# EAGLE library part MPU-6050 (library MPU-6050)
Gyro & Accelerometer 6 Axis I2C,MEMs InvenSense MPU-6050 6-Axis Motion Sensor Module Source: Datasheet <http://store.invensense.com/datasheets/invensense/MPU-6050_DataSheet_V3 4.pdf>
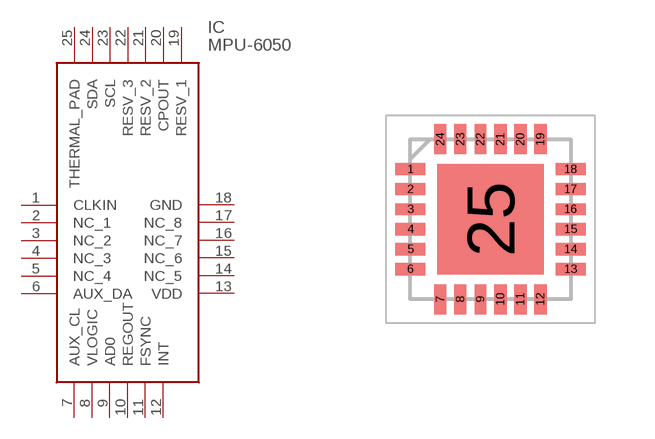
[diagram p0: symbol with the pads of QFN50P400X400X95-25N; footprint QFN50P400X400X95-25N]

Designator prefix IC

## MPU-6050 (Arrow_Part_Number: MPU-6050; Arrow_Price-Stock: http://uk.rs-online.com/web/p/products/8837948P; Description: Gyro & Accelerometer 6 Axis I2C,MEMs InvenSense MPU-6050 6-Axis Motion Sensor Module; Height: 0.95mm; Manufacturer_Name: INVENSENSE; Manufacturer_Part_Number: MPU-6050; RS_Part_Number: 8837948P; RS_Price-Stock: http://uk.rs-online.com/web/p/products/8837948P)  [QFN50P400X400X95-25N]
1  CLKIN
2  NC_1
3  NC_2
4  NC_3
5  NC_4
6  AUX_DA
7  AUX_CL
8  VLOGIC
9  AD0
10  REGOUT
11  FSYNC
12  INT
13  VDD
14  NC_5
15  NC_6
16  NC_7
17  NC_8
18  GND
19  RESV_1
20  CPOUT
21  RESV_2
22  RESV_3
23  SCL
24  SDA
25  THERMAL_PAD

## Footprint QFN50P400X400X95-25N (pad centres in mm)
24 Lead QFN (4x4x0.9)
smd 0.75 x 0.3: 1 -2,1.25; 2 -2,0.75; 3 -2,0.25; 4 -2,-0.25; 5 -2,-0.75; 6 -2,-1.25; 13 2,-1.25; 14 2,-0.75; 15 2,-0.25; 16 2,0.25; 17 2,0.75; 18 2,1.25
smd 0.3 x 0.75: 7 -1.25,-2; 8 -0.75,-2; 9 -0.25,-2; 10 0.25,-2; 11 0.75,-2; 12 1.25,-2; 19 1.25,2; 20 0.75,2; 21 0.25,2; 22 -0.25,2; 23 -0.75,2; 24 -1.25,2
smd 2.65 x 2.75: 25 0,0